# Altium footprint library TO.PcbLib: 23 footprints (part 1 of 2)
Each footprint in its own frame and in the unit in brackets; x right, y up, seen from the top. Pads: shape width x height; smd on the part's side, far side on the other; paste and mask are expansions set on the pad; w line width, h text height; cw(c..) or ccw(c..) is an arc to the next point about the centre after c.
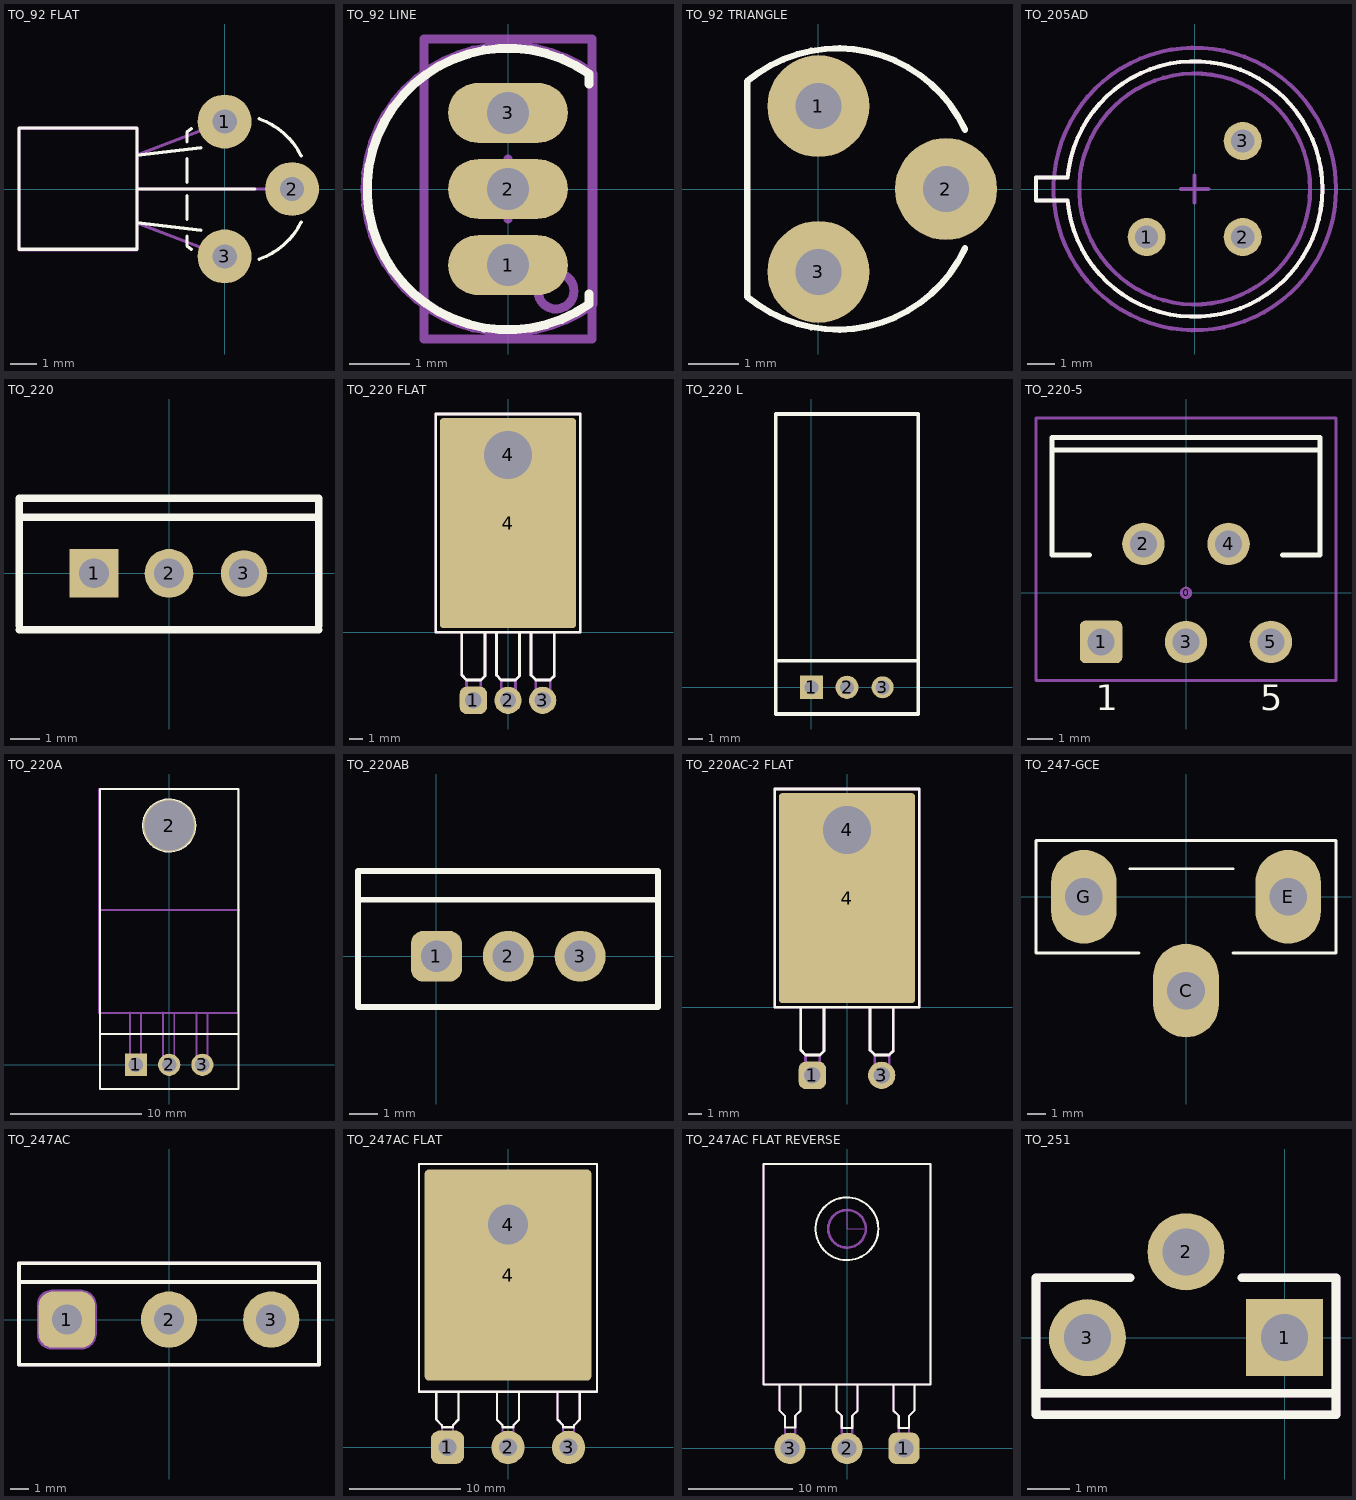
[diagram p0: the footprints below, top view; thin cyan lines are the x and y axes]

## TO_92 FLAT [mil]
height 151.57
pads (3):
  round 80 hole 36: 1(0,100) 2(100,0) 3(0,-100)
Top Overlay:
  lines w5: -130.03,0 45,0 ; -130,-50 -35.14,-61.16 ; -130,50 -35.14,61.16 ; -55.86,-70 -55.86,-84.45 ccw(c15,0) -49.54,-89.37 ; -55.86,-45 -55.86,-10 ; -55.86,10 -55.86,45 ; -55.86,70 -55.86,84.45 cw(c15,0) -49.54,89.37 ; 51.42,-104.05 ccw(c15,0) 113.6,-49.3 ; 51.42,104.05 cw(c15,0) 113.6,49.3 ; -305.03,-89.45 -305.03,90.55 -130.03,90.55 -130.03,-89.45 -305.03,-89.45
Mechanical 13:
  lines w5: -130,-50.44 0,-100 ; -130,0.1 100,0 ; -130,50.44 0,100 ; -305,-90 -305,90 -130,90 -130,-90 -305,-90
3D body "TO-92_Flat.STEP": height 141.73, standoff -100, extent -307.08,-109.84 109.85,109.85

## TO_92 LINE [mm] "TO, Flat Index; 3 In-Line, Axial Leads; Body Dia. 4.6mm; Leads 0.41 x 0.39 mm (max)"
height 4.7
pads (3):
  oval 2x1 hole 0.7: 1(0,-1.27) 2(0,0) 3(0,1.27)
Top Overlay:
  lines w0.15: 1.35,-1.75 1.35,-1.92 cw(c0,0) 1.35,1.92 1.35,1.75
  text "." at 1.6,-1.3 h0.1
Top Courtyard:
  lines w0.15: -0.5,0 0.5,0 ; 0,-0.5 0,0.5 ; -1.4,-2.5 0,-2.5 1.4,-2.5 1.4,0 1.4,2.5 0,2.5 -1.4,2.5 -1.4,0 -1.4,-2.5
Mechanical 29:
  circle w0.15: c0.8,-1.7 r0.3
  lines w0.15: 1.415,-1.92 cw(c0,0) 1.415,1.92 1.415,-1.92
  text ".Designator" at -2.2,-0.3 h1
3D body "TO-92.STEP": height 7, standoff -3, extent -2.5,-2.5 1.501,2.5

## TO_92 TRIANGLE [mil]
height 397.64
pads (3):
  round 80 hole 36: 1(0,65) 2(100,0) 3(0,-65)
Top Overlay:
  lines w5: 114.91,-46.59 cw(c15,0) -55.86,-84.45 -55.86,84.45 cw(c15,0) 114.91,46.59
3D body "TO-92_A.stp": height 404.72, standoff -100, extent -54.52,-94.57 107.49,94.56

## TO_205AD [mm]
height 10.1
pads (3):
  round 1.4 hole 0.85: 1(-1.768,-1.768) 2(1.768,-1.768) 3(1.768,1.768)
Top Overlay:
  lines w0.15: -5.84,-0.43 -4.68,-0.43 ccw(c0,0) -4.68,0.43 -5.84,0.43 -5.84,-0.43
Top Courtyard:
  circle w0.15: c0,0 r5.2
  lines w0.15: -0.5,0 0.5,0 ; 0,-0.5 0,0.5
Mechanical 29:
  circle w0.15: c0,0 r4.25
  lines w0.15: -5.84,-0.43 -4.68,-0.43 ccw(c0,0) -4.68,0.43 -5.84,0.43 -5.84,-0.43
  text ".Designator" at -3.3,-0.3 h1
3D body "TO-39.STEP": height 10.1, standoff -8.32, extent -6.646,-6.646 6.642,6.642

## TO_220 [mil]
pads (3):
  rect 65x65 hole 39.4: 1(-100,0)
  round 65 hole 39.4: 2(0,0)
  round 62 hole 39.4: 3(100,0)
Top Overlay:
  lines w10: -200,-75 200,-75 ; -200,-70 -200,100 200,100 200,-70 ; -200,75 200,75
3D body "TO-220-4.STEP": height 868.51, standoff -265.35, extent -200.79,-70.87 200.79,106.3

## TO_220 FLAT [mm]
pads (5):
  rrect50% 2x2 hole 1.2: 1(-2.54,-5)
  round 2 hole 1.2: 2(0,-5) 3(2.54,-5)
  rrect5% 10x15.4 smd: 4(0,8)
  round 4.5 / inner round 4.5 / far side round 7 hole 3.5: 4(0,13)
Top Overlay:
  lines w0.2: -3.39,0 -3.39,-3.15 -3.04,-3.5 -1.99,-3.5 -1.69,-3.2 -1.69,0 ; -0.85,0 -0.85,-3.15 -0.5,-3.5 0.55,-3.5 0.85,-3.2 0.85,0 ; 1.69,0 1.69,-3.15 2.04,-3.5 3.09,-3.5 3.39,-3.2 3.39,0 ; -5.3,0 -5.3,16 5.3,16 5.3,0 -5.3,0
Mechanical 8:
  circle w0.2: c0,13 r1.8
  lines w0.2: -3.39,0 -3.39,-3.15 -3.04,-3.5 ; -1.69,0 -1.69,-3.2 -1.99,-3.5 ; -0.85,0 -0.85,-3.15 -0.5,-3.5 ; 0.85,0 0.85,-3.2 0.55,-3.5 ; 1.69,0 1.69,-3.15 2.04,-3.5 ; 3.39,0 3.39,-3.2 3.09,-3.5 ; -3.04,-3.5 -3.04,-5 -1.99,-5 -1.99,-3.5 ; -3.04,-3.5 -1.99,-3.5 ; -0.5,-3.5 -0.5,-5 0.55,-5 0.55,-3.5 ; -0.5,-3.5 0.55,-3.5 ; 2.04,-3.5 2.04,-5 3.09,-5 3.09,-3.5 ; 2.04,-3.5 3.09,-3.5 ; -5.3,0 5.3,0 5.3,16 -5.3,16 -5.3,0
  text ".Designator" at 0.75,1.45 h4
3D body "TO-220_surface.stp": height 4.5, standoff -3, extent -5,-5.3 5,15.75

## TO_220 L [mil]
pads (3):
  rect 65x65 hole 39.4: 1(0,0)
  round 65 hole 39.4: 2(100,0)
  round 62 hole 39.4: 3(200,0)
Top Overlay:
  lines w10: -100,-75 300,-75 ; -100,-70 -100,767.72 300,767.72 300,-70 ; -100,75 300,75
3D body "TO220 L.step": height 177.17, standoff -118.11, extent -96.06,-7.87 297.64,767.88

## TO_220-5 [mm] "TO, Thru-Hole, Vertical, Heatsink Mounted; 5 Bent Staggered Leads; Pitch 1.7mm"
height 21.1
pads (6):
  round 0.5 on Mech15: 0(0,0)
  rrect25% 1.7x1.7 hole 1.092: 1(-3.4,-1.96)
  round 1.7 hole 1.092: 2(-1.7,1.96) 3(0,-1.96) 4(1.7,1.96) 5(3.4,-1.96)
Top Overlay:
  lines w0.2: -5.35,5.71 5.35,5.71 ; -3.854,1.51 -5.35,1.51 -5.35,6.21 5.35,6.21 5.35,1.51 3.854,1.51
  text "5" at 2.98,-4.685 h1.02
  text "1" at -3.62,-4.685 h1.02
Mechanical 15:
  lines w0.127: -6,-3.5 6,-3.5 6,7 -6,7 -6,-3.5
3D body "SW3dPS-TO220-5.STEP": height 20.99, standoff -3, extent -5.08,-2.16 5.08,6.08

## TO_220A [mm] "TO, Thru-Hole, Vertical, Heatsink Mounted; 3 In-Line Leads; Pitch 2.54 mm"
height 19.7
pads (4):
  rect 1.7x1.7 hole 1.1: 1(-2.54,0)
  round 4 hole 3.8: 2(0,18.288)
  round 1.7 hole 1.1: 2(0,0) 3(2.54,0)
Top Overlay:
  circle w0.15: c0,18.288 r2
  lines w0.15: -5.3,2.35 5.3,2.35 ; -5.3,-1.85 5.3,-1.85 5.3,21.082 -5.3,21.082 -5.3,-1.85
Mechanical 29:
  lines w0.15: -5.35,11.825 5.325,11.825 ; -3,4 -3,-0.4 -2.15,-0.4 -2.15,3.95 -2.9,3.95 ; -0.46,4 -0.46,-0.4 0.39,-0.4 0.39,3.95 -0.36,3.95 ; 2.08,4 2.08,-0.4 2.93,-0.4 2.93,3.95 2.18,3.95 ; -5.35,3.95 -5.35,21.075 5.275,21.075 5.275,3.95 -5.35,3.95
  text ".Designator" at -2.7,6 h1
3D body "TO220.STEP": height 4.5, standoff -3.5, extent -5.2,-0.254 5.2,20.846

## TO_220AB [mm]
pads (3):
  rrect50% 1.8x1.8 hole 1.1: 1(0,0)
  round 1.8 hole 1.1: 2(2.54,0) 3(5.08,0)
Top Overlay:
  lines w0.2: -2.76,2 7.83,2 ; 0.05,-1.79 0,-1.79 ; 0,-1.79 7.83,-1.79 7.83,3.01 -2.77,3.01 -2.77,-1.79 0,-1.79
3D body "TO-220-4.STEP": height 19.4, standoff -9.4, extent -2.56,-1.75 7.64,2.75

## TO_220AC-2 FLAT [mm]
pads (4):
  rrect50% 2x2 hole 1.2: 1(-2.54,-5)
  round 2 hole 1.2: 3(2.54,-5)
  rrect5% 10x15.4 smd: 4(0,8)
  round 4.5 / inner round 4.5 / far side round 7 hole 3.5: 4(0,13)
Top Overlay:
  lines w0.2: -3.39,0 -3.39,-3.15 -3.04,-3.5 -1.99,-3.5 -1.69,-3.2 -1.69,0 ; 1.69,0 1.69,-3.15 2.04,-3.5 3.09,-3.5 3.39,-3.2 3.39,0 ; -5.3,0 -5.3,16 5.3,16 5.3,0 -5.3,0
Mechanical 8:
  circle w0.2: c0,13 r1.8
  lines w0.2: -3.39,0 -3.39,-3.15 -3.04,-3.5 ; -1.69,0 -1.69,-3.2 -1.99,-3.5 ; 1.69,0 1.69,-3.15 2.04,-3.5 ; 3.39,0 3.39,-3.2 3.09,-3.5 ; -3.04,-3.5 -3.04,-5 -1.99,-5 -1.99,-3.5 ; -3.04,-3.5 -1.99,-3.5 ; 2.04,-3.5 2.04,-5 3.09,-5 3.09,-3.5 ; 2.04,-3.5 3.09,-3.5 ; -5.3,0 5.3,0 5.3,16 -5.3,16 -5.3,0
  text ".Designator" at 0.75,1.45 h4
3D body "TO-220AC-2_surface.stp": height 4.5, standoff -3, extent -5,-5.3 5,15.75

## TO_247-GCE [mm]
pads (3):
  oval 3.5x5 hole 2: C(0,-5) E(5.45,0) G(-5.45,0)
Top Overlay:
  lines w0.15: -3,1.5 2.5,1.5 ; -2.5,-3 -8,-3 -8,3 8,3 8,-3 2.5,-3
3D body "TO-247AC.STEP": height 26.15, standoff -3.84, extent -7.5,-5.2 7.5,3

## TO_247AC [mm]
pads (3):
  rrect50% 3x3 hole 1.6: 1(-5.45,0)
  round 3 hole 1.6: 2(0,0) 3(5.45,0)
Top Overlay:
  lines w0.2: -8,2 8,2 8,1.8 ; -8,-2.4 6.8,-2.4 8,-2.4 8,3 -7.9,3 -8,3 -8,-2.4
Mechanical 8:
  lines w0.2: -8,2 8,2 8,1.8 ; -8,-2.4 -8,3 -7.9,3 8,3 8,-2.4 6.8,-2.4 -8,-2.4 ; -6.95,-0.8 ccw(c-6.25,-0.8) -6.25,-1.5 -4.7,-1.5 ccw(c-4.7,-0.75) -3.95,-0.75 -3.95,0.75 ccw(c-4.7,0.75) -4.7,1.5 -6.25,1.5 ccw(c-6.25,0.8) -6.95,0.8 -6.95,-0.8
  text ".Designator" at -2.7,-1.35 h5
3D body "TO-247AC.STEP": height 24.2, standoff -4, extent -7.9,-2.39 7.9,2.92

## TO_247AC FLAT [mm]
pads (5):
  rrect50% 3x3 hole 1.6: 1(-5.45,0)
  round 3 hole 1.6: 2(0,0) 3(5.45,0)
  rrect5% 15x19 smd: 4(0,15.5)
  round 8 hole 3.6: 4(0,20.05)
Top Overlay:
  lines w0.2: -6.45,5 -6.45,2.5 -5.95,2 -5.95,1.8 -4.95,1.8 -4.95,2 -4.45,2.5 -4.45,5 ; -1,5 -1,2.5 -0.5,2 -0.5,1.8 0.5,1.8 0.5,2 1,2.5 1,5 ; 4.45,5 4.45,2.5 4.95,2 4.95,1.8 5.95,1.8 5.95,2 6.45,2.5 6.45,5 ; -8,5 -8,25.5 8,25.5 8,5 -8,5
Mechanical 8:
  circle w0.25: c0,20.05 r1.753
  lines w0.2: -6.45,5 -6.45,2.5 -5.95,2 -5.95,0 -4.95,0 -4.95,2 -4.45,2.5 -4.45,5 ; -1,5 -1,2.5 -0.5,2 -0.5,0 0.5,0 0.5,2 1,2.5 1,5 ; 4.45,5 4.45,2.5 4.95,2 4.95,0 5.95,0 5.95,2 6.45,2.5 6.45,5 ; -8,5 8,5 8,25.5 -8,25.5 -8,5
  text ".Designator" at -5.35,10.05 h5
3D body "TO-247AC_surface.stp": height 5.31, standoff -4, extent -7.9,-0.4 7.9,25.5

## TO_247AC FLAT REVERSE [mm]
pads (3):
  rrect50% 3x3 hole 1.8: 1(5.45,0)
  round 3 hole 1.8: 2(0,0) 3(-5.45,0)
Top Overlay:
  circle w0.2: c0,21 r3
  lines w0.2: -6.45,6.1 -6.45,3.6 -5.95,3.1 -5.95,2 -4.95,2 -4.95,3.1 -4.45,3.6 -4.45,6.1 ; -1,6.1 -1,3.6 -0.5,3.1 -0.5,1.95 0.5,1.95 0.5,3.1 1,3.6 1,6.1 ; 4.45,6.1 4.45,3.6 4.95,3.1 4.95,1.95 5.95,1.95 5.95,3.1 6.45,3.6 6.45,6.1 ; -8,6.1 -8,27.2 8,27.2 8,6.1 -8,6.1
Mechanical 1:
  circle w0.2: c0,21 r1.8
  lines w0.1: 0,22.6 0,21 1.6,21
Mechanical 8:
  circle w0.25: c0,21 r1.8
  lines w0.2: -6.45,6.1 -6.45,3.6 -5.95,3.1 -5.95,0 -4.95,0 -4.95,3.1 -4.45,3.6 -4.45,6.1 ; -1,6.1 -1,3.6 -0.5,3.1 -0.5,0 0.5,0 0.5,3.1 1,3.6 1,6.1 ; 4.45,6.1 4.45,3.6 4.95,3.1 4.95,0 5.95,0 5.95,3.1 6.45,3.6 6.45,6.1 ; -8,6.1 8,6.1 8,27.2 -8,27.2 -8,6.1
  text ".Designator" at -5.35,10.15 h5
3D body "PG-TO247-3_Infineon.stp": height 5.2, standoff -3.8, extent -8.05,-0.35 8.05,27.1

## TO_251 [mm]
pads (3):
  rect 1.8x1.8 hole 1.1: 1(0,0)
  round 1.8 hole 1.1: 2(-2.3,2) 3(-4.6,0)
Top Overlay:
  lines w0.2: -5.8,-1.3 1.2,-1.3 ; -3.6,1.4 -5.8,1.4 -5.8,-1.8 1.2,-1.8 1.2,1.2 1.2,1.4 -1,1.4
Mechanical 8:
  lines w0.2: -5.8,-1.3 1.2,-1.3 ; -3.6,1.4 -5.8,1.4 -5.8,-1.8 1.2,-1.8 1.2,1.2 1.2,1.4 -1,1.4
  text ".Designator" at -5.2,-1 h3.4
3D body "to-251aa.STEP": height 9.87, standoff -7.15, extent -5.55,-1.3 0.95,1